# Altium schematic symbol library led_driver.SchLib: 1 symbol
Pins are listed as number, name and electrical type; pins without a type are passive.

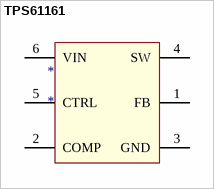
[diagram p0: symbol TPS61161]

## TPS61161
designator *
pins: 1 FB, 2 COMP, 3 GND, 4 SW, 5 CTRL, 6 VIN